# Altium schematic symbol library 1612898-1.SchLib: 1 symbol
Pins are listed as number, name and electrical type; pins without a type are passive.

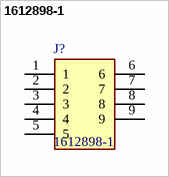
[diagram p0: symbol 1612898-1]

## 1612898-1
designator J?
Board to Board & Mezzanine Connectors BATTERY BLOCK CONN. PLUG ASSY; Manufacturer_Name: TE Connectivity; Geometry.Height: 5.4mm; Manufacturer_Part_Number: 1612898-1; Mouser Part Number: 571-1612898-1; Mouser Price/Stock: https://www.mouser.co.uk/ProductDetail/TE-Connectivity/1612898-1?qs=y6UIinpTn8ihonOLq5Ne5A%3D%3D; Arrow Part Number: *; Arrow Price/Stock: *; Datasheet Link: https://www.te.com/commerce/DocumentDelivery/DDEController?Action=showdoc&DocId=Customer+Drawing%7F1612898%7FO%7Fpdf%7FJapanese%7FJPN_CD_1612898_O.pdf%7F1612898-1
footprint 16128981
pins: 1, 2, 3, 4, 5, 6, 7, 8, 9